# EAGLE library part DIN_32_A_B (library Stecker_Pins)
Messerleiste PCB 32 A & B
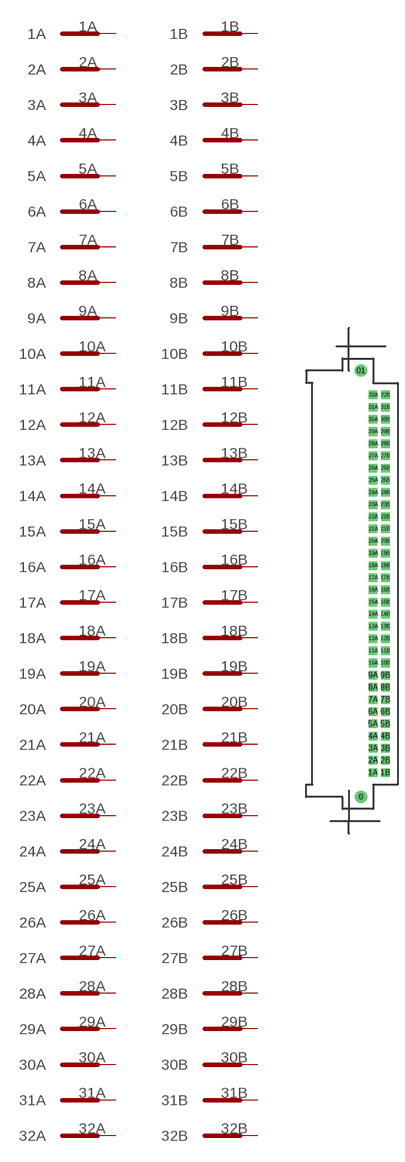
[diagram p17: symbol with the pads of DIN_32A_B; footprint DIN_32A_B]

Designator prefix K

## DIN_32_A_B  [DIN_32A_B]
1A  1A
1B  1B
2A  2A
2B  2B
3A  3A
3B  3B
4A  4A
4B  4B
5A  5A
5B  5B
6A  6A
6B  6B
7A  7A
7B  7B
8A  8A
8B  8B
9A  9A
9B  9B
10A  10A
10B  10B
11A  11A
11B  11B
12A  12A
12B  12B
13A  13A
13B  13B
14A  14A
14B  14B
15A  15A
15B  15B
16A  16A
16B  16B
17A  17A
17B  17B
18A  18A
18B  18B
19A  19A
19B  19B
20A  20A
20B  20B
21A  21A
21B  21B
22A  22A
22B  22B
23A  23A
23B  23B
24A  24A
24B  24B
25A  25A
25B  25B
26A  26A
26B  26B
27A  27A
27B  27B
28A  28A
28B  28B
29A  29A
29B  29B
30A  30A
30B  30B
31A  31A
31B  31B
32A  32A
32B  32B

## Footprint DIN_32A_B (pad centres in mm)
drill 0.6 pad 2.54: 0 0,-46.99; 01 0,41.91
drill 0.8 pad 1.778 square: 1A 2.54,-41.91; 1B 5.08,-41.91; 2A 2.54,-39.37; 2B 5.08,-39.37; 3A 2.54,-36.83; 3B 5.08,-36.83; 4A 2.54,-34.29; 4B 5.08,-34.29; 5A 2.54,-31.75; 5B 5.08,-31.75; 6A 2.54,-29.21; 6B 5.08,-29.21; 7A 2.54,-26.67; 7B 5.08,-26.67; 8A 2.54,-24.13; 8B 5.08,-24.13; 9A 2.54,-21.59; 9B 5.08,-21.59; 10A 2.54,-19.05; 10B 5.08,-19.05; 11A 2.54,-16.51; 11B 5.08,-16.51; 12A 2.54,-13.97; 12B 5.08,-13.97; 13A 2.54,-11.43; 13B 5.08,-11.43; 14A 2.54,-8.89; 14B 5.08,-8.89; 15A 2.54,-6.35; 15B 5.08,-6.35; 16A 2.54,-3.81; 16B 5.08,-3.81; 17A 2.54,-1.27; 17B 5.08,-1.27; 18A 2.54,1.27; 18B 5.08,1.27; 19A 2.54,3.81; 19B 5.08,3.81; 20A 2.54,6.35; 20B 5.08,6.35; 21A 2.54,8.89; 21B 5.08,8.89; 22A 2.54,11.43; 22B 5.08,11.43; 23A 2.54,13.97; 23B 5.08,13.97; 24A 2.54,16.51; 24B 5.08,16.51; 25A 2.54,19.05; 25B 5.08,19.05; 26A 2.54,21.59; 26B 5.08,21.59; 27A 2.54,24.13; 27B 5.08,24.13; 28A 2.54,26.67; 28B 5.08,26.67; 29A 2.54,29.21; 29B 5.08,29.21; 30A 2.54,31.75; 30B 5.08,31.75; 31A 2.54,34.29; 31B 5.08,34.29; 32A 2.54,36.83; 32B 5.08,36.83